# Altium footprint library QFN.PcbLib: 32 footprints (part 1 of 2)
Each footprint in its own frame and in the unit in brackets; x right, y up, seen from the top. Pads: shape width x height; smd on the part's side, far side on the other; paste and mask are expansions set on the pad; w line width, h text height; cw(c..) or ccw(c..) is an arc to the next point about the centre after c.
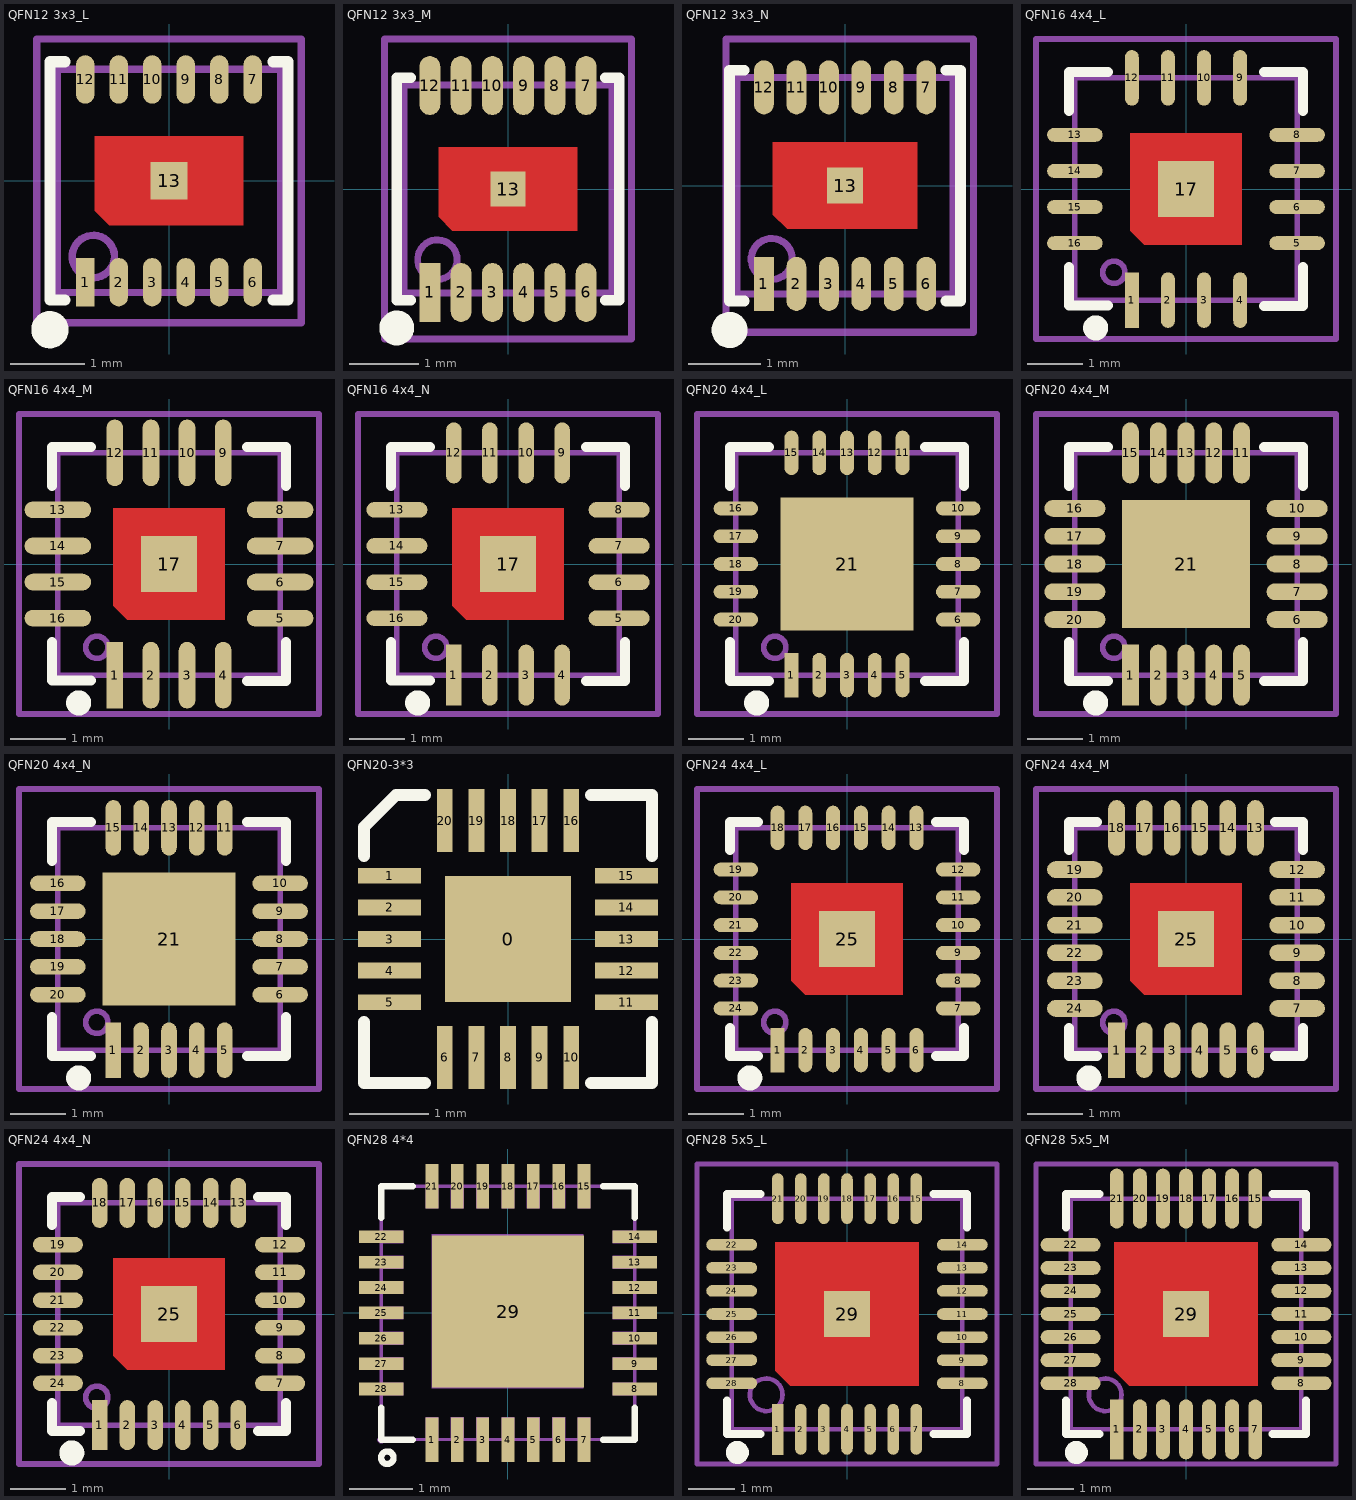
[diagram p0: the footprints below, top view; thin cyan lines are the x and y axes]

## QFN12 3x3_L [mm] "12脚，长x宽x高：3x3x0.6mm，脚距：0.45mm"
pads (13):
  rect 0.25x0.65 smd: 1(-1.125,-1.362)
  oval 0.25x0.65 smd: 2(-0.675,-1.362) 3(-0.225,-1.362) 4(0.225,-1.362) 5(0.675,-1.362) 6(1.125,-1.362) 7(1.125,1.362) 8(0.675,1.362) 9(0.225,1.362) 10(-0.225,1.362) 11(-0.675,1.362) 12(-1.125,1.362)
  rect 0.5x0.5 smd: 13(0,0)
Top Layer:
  region: -1,0.6 1,0.6 1,-0.6 -0.8,-0.6 -1,-0.4
Top Overlay:
  circle w0.25: c-1.6,-2 r0.125
  lines w0.15: -1.397,-1.6 -1.6,-1.6 -1.6,1.6 -1.397,1.6 ; 1.397,-1.6 1.6,-1.6 1.6,1.6 1.397,1.6
Mechanical 13:
  circle w0.1: c-1.016,-1.016 r0.284
  lines w0.1: 1.5,-1.5 -1.49,-1.5 -1.5,-1.51 -1.5,1.5 1.5,1.5 ; 1.5,-1.5 1.5,-1.5 ; 1.5,-1.5 1.5,1.5 ; 1.5,1.5 1.5,1.5
Mechanical 15:
  circle w0.05: c0,0 r0.35
  lines w0.05: -0.5,0 0.5,0 ; 0,-0.5 0,0.5
  lines w0.1: -1.778,-1.905 -1.778,1.905 1.778,1.905 1.778,-1.905 -1.778,-1.905
3D body "QFN12 3x3.STEP": height 0.63, standoff 0, extent -1.5,-1.501 1.5,1.501

## QFN12 3x3_M [mm] "12脚，长x宽x高：3x3x0.6mm，脚距：0.45mm"
pads (13):
  rect 0.3x0.85 smd: 1(-1.125,-1.489)
  oval 0.3x0.85 smd: 2(-0.675,-1.489) 3(-0.225,-1.489) 4(0.225,-1.489) 5(0.675,-1.489) 6(1.125,-1.489) 7(1.125,1.489) 8(0.675,1.489) 9(0.225,1.489) 10(-0.225,1.489) 11(-0.675,1.489) 12(-1.125,1.489)
  rect 0.5x0.5 smd: 13(0,0)
Top Layer:
  region: -1,0.6 1,0.6 1,-0.6 -0.8,-0.6 -1,-0.4
Top Overlay:
  circle w0.25: c-1.6,-2 r0.125
  lines w0.15: -1.397,-1.6 -1.6,-1.6 -1.6,1.6 -1.397,1.6 ; 1.397,-1.6 1.6,-1.6 1.6,1.6 1.397,1.6
Mechanical 13:
  circle w0.1: c-1.016,-1.016 r0.284
  lines w0.1: 1.5,-1.5 -1.49,-1.5 -1.5,-1.51 -1.5,1.5 1.5,1.5 ; 1.5,-1.5 1.5,-1.5 ; 1.5,-1.5 1.5,1.5 ; 1.5,1.5 1.5,1.5
Mechanical 15:
  circle w0.05: c0,0 r0.35
  lines w0.05: -0.5,0 0.5,0 ; 0,-0.5 0,0.5
  lines w0.1: -1.778,-2.159 1.778,-2.159 1.778,2.159 -1.778,2.159 -1.778,-2.159
3D body "QFN12 3x3.STEP": height 0.63, standoff 0, extent -1.5,-1.501 1.5,1.501

## QFN12 3x3_N [mm] "12脚，长x宽x高：3x3x0.6mm，脚距：0.45mm"
pads (13):
  rect 0.275x0.75 smd: 1(-1.125,-1.362)
  oval 0.275x0.75 smd: 2(-0.675,-1.362) 3(-0.225,-1.362) 4(0.225,-1.362) 5(0.675,-1.362) 6(1.125,-1.362) 7(1.125,1.362) 8(0.675,1.362) 9(0.225,1.362) 10(-0.225,1.362) 11(-0.675,1.362) 12(-1.125,1.362)
  rect 0.5x0.5 smd: 13(0,0)
Top Layer:
  region: -1,0.6 1,0.6 1,-0.6 -0.8,-0.6 -1,-0.4
Top Overlay:
  circle w0.25: c-1.6,-2 r0.125
  lines w0.15: -1.397,-1.6 -1.6,-1.6 -1.6,1.6 -1.397,1.6 ; 1.397,-1.6 1.6,-1.6 1.6,1.6 1.397,1.6
Mechanical 13:
  circle w0.1: c-1.016,-1.016 r0.284
  lines w0.1: 1.5,-1.5 -1.49,-1.5 -1.5,-1.51 -1.5,1.5 1.5,1.5 ; 1.5,-1.5 1.5,-1.5 ; 1.5,-1.5 1.5,1.5 ; 1.5,1.5 1.5,1.5
Mechanical 15:
  circle w0.05: c0,0 r0.35
  lines w0.05: -0.5,0 0.5,0 ; 0,-0.5 0,0.5
  lines w0.1: -1.651,-2.032 -1.651,2.032 1.778,2.032 1.778,-2.032 -1.651,-2.032
3D body "QFN12 3x3.STEP": height 0.63, standoff 0, extent -1.5,-1.501 1.5,1.501

## QFN16 4x4_L [mm] "16脚，长x宽x高：4x4x0.8mm，脚距：0.65mm"
pads (17):
  rect 0.25x1 smd: 1(-0.975,-2)
  oval 0.25x1 smd: 2(-0.325,-2) 3(0.325,-2) 4(0.975,-2) 9(0.975,2) 10(0.325,2) 11(-0.325,2) 12(-0.975,2)
  oval 1x0.25 smd: 5(2,-0.975) 6(2,-0.325) 7(2,0.325) 8(2,0.975) 13(-2,0.975) 14(-2,0.325) 15(-2,-0.325) 16(-2,-0.975)
  rect 1x1 smd: 17(0,0)
Top Layer:
  region: -1,1 1,1 1,-1 -0.75,-1 -1,-0.75
Top Overlay:
  circle w0.25: c-1.625,-2.5 r0.1
  lines w0.178: -2.106,-1.404 -2.106,-2.1 -1.404,-2.1 ; -2.106,1.404 -2.106,2.106 -1.404,2.106 ; 1.404,-2.106 2.106,-2.106 2.106,-1.404 ; 1.404,2.106 2.106,2.106 2.106,1.404
Mechanical 13:
  circle w0.1: c-1.3,-1.5 r0.2
  lines w0.1: -2,-2 -2,2 2,2 2,-2 -2,-2
Mechanical 15:
  circle w0.05: c0,0 r0.35
  lines w0.05: -0.5,0 0.5,0 ; 0,-0.5 0,0.5
  lines w0.1: -2.7,-2.7 2.7,-2.7 2.7,2.7 -2.7,2.7 -2.7,-2.7
3D body "QFN16-4X4.STEP": height 0.75, standoff -0.05, extent -2.01,-2.01 2.01,2.01

## QFN16 4x4_M [mm] "16脚，长x宽x高：4x4x0.8mm，脚距：0.65mm"
pads (17):
  rect 0.3x1.2 smd: 1(-0.975,-2)
  oval 0.3x1.2 smd: 2(-0.325,-2) 3(0.325,-2) 4(0.975,-2) 9(0.975,2) 10(0.325,2) 11(-0.325,2) 12(-0.975,2)
  oval 1.2x0.3 smd: 5(2,-0.975) 6(2,-0.325) 7(2,0.325) 8(2,0.975) 13(-2,0.975) 14(-2,0.325) 15(-2,-0.325) 16(-2,-0.975)
  rect 1x1 smd: 17(0,0)
Top Layer:
  region: -1,1 1,1 1,-1 -0.75,-1 -1,-0.75
Top Overlay:
  circle w0.25: c-1.625,-2.5 r0.1
  lines w0.178: -2.106,-1.404 -2.106,-2.1 -1.404,-2.1 ; -2.106,1.404 -2.106,2.106 -1.404,2.106 ; 1.404,-2.106 2.106,-2.106 2.106,-1.404 ; 1.404,2.106 2.106,2.106 2.106,1.404
Mechanical 13:
  circle w0.1: c-1.3,-1.5 r0.2
  lines w0.1: -2,-2 -2,2 2,2 2,-2 -2,-2
Mechanical 15:
  circle w0.05: c0,0 r0.35
  lines w0.05: -0.5,0 0.5,0 ; 0,-0.5 0,0.5
  lines w0.1: -2.7,-2.7 2.7,-2.7 2.7,2.7 -2.7,2.7 -2.7,-2.7
3D body "QFN16-4X4.STEP": height 0.75, standoff -0.05, extent -2.01,-2.01 2.01,2.01

## QFN16 4x4_N [mm] "16脚，长x宽x高：4x4x0.8mm，脚距：0.65mm"
pads (17):
  rect 0.28x1.1 smd: 1(-0.975,-2)
  oval 0.28x1.1 smd: 2(-0.325,-2) 3(0.325,-2) 4(0.975,-2) 9(0.975,2) 10(0.325,2) 11(-0.325,2) 12(-0.975,2)
  oval 1.1x0.28 smd: 5(2,-0.975) 6(2,-0.325) 7(2,0.325) 8(2,0.975) 13(-2,0.975) 14(-2,0.325) 15(-2,-0.325) 16(-2,-0.975)
  rect 1x1 smd: 17(0,0)
Top Layer:
  region: -1,1 1,1 1,-1 -0.75,-1 -1,-0.75
Top Overlay:
  circle w0.25: c-1.625,-2.5 r0.1
  lines w0.178: -2.106,-1.404 -2.106,-2.1 -1.404,-2.1 ; -2.106,1.404 -2.106,2.106 -1.404,2.106 ; 1.404,-2.106 2.106,-2.106 2.106,-1.404 ; 1.404,2.106 2.106,2.106 2.106,1.404
Mechanical 13:
  circle w0.1: c-1.3,-1.5 r0.2
  lines w0.1: -2,-2 2,-2 2,2 -2,2 -2,-2
Mechanical 15:
  circle w0.05: c0,0 r0.35
  lines w0.05: -0.5,0 0.5,0 ; 0,-0.5 0,0.5
  lines w0.1: -2.7,-2.7 -2.7,2.7 2.7,2.7 2.7,-2.7 -2.7,-2.7
3D body "QFN16-4X4.STEP": height 0.75, standoff -0.05, extent -2.01,-2.01 2.01,2.01

## QFN20 4x4_L [mm] "20脚，长x宽x高：4x4x0.95mm，脚距：0.5mm"
pads (21):
  rect 0.25x0.8 smd: 1(-1,-2)
  oval 0.25x0.8 smd: 2(-0.5,-2) 3(0,-2) 4(0.5,-2) 5(1,-2) 11(1,2) 12(0.5,2) 13(0,2) 14(-0.5,2) 15(-1,2)
  oval 0.8x0.25 smd: 6(2,-1) 7(2,-0.5) 8(2,0) 9(2,0.5) 10(2,1) 16(-2,1) 17(-2,0.5) 18(-2,0) 19(-2,-0.5) 20(-2,-1)
  rect 2.4x2.4 smd: 21(0,0)
Top Overlay:
  circle w0.25: c-1.625,-2.5 r0.1
  lines w0.178: -2.106,-1.404 -2.106,-2.106 -1.404,-2.106 ; -2.106,1.404 -2.106,2.106 -1.404,2.106 ; 1.404,-2.106 2.106,-2.106 2.106,-1.404 ; 1.404,2.106 2.106,2.106 2.106,1.404
Mechanical 13:
  circle w0.1: c-1.3,-1.5 r0.2
  lines w0.1: -2,-2 2,-2 2,2 -2,2 -2,-2
Mechanical 15:
  circle w0.05: c0,0 r0.35
  lines w0.05: -0.5,0 0.5,0 ; 0,-0.5 0,0.5
  lines w0.1: -2.7,-2.7 -2.7,2.7 2.7,2.7 2.7,-2.7 -2.7,-2.7
3D body "QFN20-4X4.STEP": height 0.95, standoff -0.05, extent -2.01,-2.01 2.01,2.01

## QFN20 4x4_M [mm] "20脚，长x宽x高：4x4x0.95mm，脚距：0.5mm"
pads (21):
  rect 0.3x1.1 smd: 1(-1,-2)
  oval 0.3x1.1 smd: 2(-0.5,-2) 3(0,-2) 4(0.5,-2) 5(1,-2) 11(1,2) 12(0.5,2) 13(0,2) 14(-0.5,2) 15(-1,2)
  oval 1.1x0.3 smd: 6(2,-1) 7(2,-0.5) 8(2,0) 9(2,0.5) 10(2,1) 16(-2,1) 17(-2,0.5) 18(-2,0) 19(-2,-0.5) 20(-2,-1)
  rect 2.3x2.3 smd: 21(0,0)
Top Overlay:
  circle w0.25: c-1.625,-2.5 r0.1
  lines w0.178: -2.106,-1.404 -2.106,-2.106 -1.404,-2.106 ; -2.106,1.404 -2.106,2.106 -1.404,2.106 ; 1.404,-2.106 2.106,-2.106 2.106,-1.404 ; 1.404,2.106 2.106,2.106 2.106,1.404
Mechanical 13:
  circle w0.1: c-1.3,-1.5 r0.2
  lines w0.1: -2,-2 -2,2 2,2 2,-2 -2,-2
Mechanical 15:
  circle w0.05: c0,0 r0.35
  lines w0.05: -0.5,0 0.5,0 ; 0,-0.5 0,0.5
  lines w0.1: -2.7,-2.7 2.7,-2.7 2.7,2.7 -2.7,2.7 -2.7,-2.7
3D body "QFN20-4X4.STEP": height 0.95, standoff -0.05, extent -2.01,-2.01 2.01,2.01

## QFN20 4x4_N [mm] "20脚，长x宽x高：4x4x0.95mm，脚距：0.5mm"
pads (21):
  rect 0.28x1 smd: 1(-1,-2)
  oval 0.28x1 smd: 2(-0.5,-2) 3(0,-2) 4(0.5,-2) 5(1,-2) 11(1,2) 12(0.5,2) 13(0,2) 14(-0.5,2) 15(-1,2)
  oval 1x0.28 smd: 6(2,-1) 7(2,-0.5) 8(2,0) 9(2,0.5) 10(2,1) 16(-2,1) 17(-2,0.5) 18(-2,0) 19(-2,-0.5) 20(-2,-1)
  rect 2.4x2.4 smd: 21(0,0)
Top Overlay:
  circle w0.25: c-1.625,-2.5 r0.1
  lines w0.178: -2.106,-1.404 -2.106,-2.106 -1.404,-2.106 ; -2.106,1.404 -2.106,2.106 -1.404,2.106 ; 1.404,-2.106 2.106,-2.106 2.106,-1.404 ; 1.404,2.106 2.106,2.106 2.106,1.404
Mechanical 13:
  circle w0.1: c-1.3,-1.5 r0.2
  lines w0.1: -2,-2 2,-2 2,2 -2,2 -2,-2
Mechanical 15:
  circle w0.05: c0,0 r0.35
  lines w0.05: -0.5,0 0.5,0 ; 0,-0.5 0,0.5
  lines w0.1: -2.7,-2.7 -2.7,2.7 2.7,2.7 2.7,-2.7 -2.7,-2.7
3D body "QFN20-4X4.STEP": height 0.95, standoff -0.05, extent -2.01,-2.01 2.01,2.01

## QFN20-3*3 [mm]
height 8
pads (21):
  rect 1.6x1.6 smd: 0(0,0)
  rect 0.8x0.2 smd: 1(-1.5,0.8) 2(-1.5,0.4) 3(-1.5,0) 4(-1.5,-0.4) 5(-1.5,-0.8) 11(1.5,-0.8) 12(1.5,-0.4) 13(1.5,0) 14(1.5,0.4) 15(1.5,0.8)
  rect 0.2x0.8 smd: 6(-0.8,-1.5) 7(-0.4,-1.5) 8(0,-1.5) 9(0.4,-1.5) 10(0.8,-1.5) 16(0.8,1.5) 17(0.4,1.5) 18(0,1.5) 19(-0.4,1.5) 20(-0.8,1.5)
Top Overlay:
  lines w0.15: -1.825,-1.05 -1.825,-1.825 -1.05,-1.825 ; -1.825,1.05 -1.825,1.417 -1.417,1.825 -1.05,1.825 ; 1.05,-1.825 1.825,-1.825 1.825,-1.05 ; 1.05,1.825 1.825,1.825 1.825,1.05

## QFN24 4x4_L [mm] "24脚，长x宽x高：4x4x1mm，脚距：0.5mm"
pads (25):
  rect 0.25x0.8 smd: 1(-1.25,-2)
  oval 0.25x0.8 smd: 2(-0.75,-2) 3(-0.25,-2) 4(0.25,-2) 5(0.75,-2) 6(1.25,-2) 13(1.25,2) 14(0.75,2) 15(0.25,2) 16(-0.25,2) 17(-0.75,2) 18(-1.25,2)
  oval 0.8x0.25 smd: 7(2,-1.25) 8(2,-0.75) 9(2,-0.25) 10(2,0.25) 11(2,0.75) 12(2,1.25) 19(-2,1.25) 20(-2,0.75) 21(-2,0.25) 22(-2,-0.25) 23(-2,-0.75) 24(-2,-1.25)
  rect 1x1 smd: 25(0,0)
Top Layer:
  region: -1,1 1,1 1,-1 -0.75,-1 -1,-0.75
Top Overlay:
  circle w0.25: c-1.75,-2.5 r0.1
  lines w0.178: -2.106,-1.6 -2.106,-2.106 -1.6,-2.106 ; -2.106,1.6 -2.106,2.106 -1.6,2.106 ; 1.6,-2.106 2.106,-2.106 2.106,-1.6 ; 1.6,2.106 2.106,2.106 2.106,1.6
Mechanical 13:
  circle w0.1: c-1.3,-1.5 r0.2
  lines w0.1: -2,-2 2,-2 2,2 -2,2 -2,-2
Mechanical 15:
  circle w0.05: c0,0 r0.35
  lines w0.05: -0.5,0 0.5,0 ; 0,-0.5 0,0.5
  lines w0.1: -2.7,-2.7 -2.7,2.7 2.7,2.7 2.7,-2.7 -2.7,-2.7
3D body "QFN24-4X4.STEP": height 0.95, standoff -0.05, extent -2.01,-2.01 2.01,2.01

## QFN24 4x4_M [mm] "24脚，长x宽x高：4x4x1mm，脚距：0.5mm"
pads (25):
  rect 0.3x1 smd: 1(-1.25,-2)
  oval 0.3x1 smd: 2(-0.75,-2) 3(-0.25,-2) 4(0.25,-2) 5(0.75,-2) 6(1.25,-2) 13(1.25,2) 14(0.75,2) 15(0.25,2) 16(-0.25,2) 17(-0.75,2) 18(-1.25,2)
  oval 1x0.3 smd: 7(2,-1.25) 8(2,-0.75) 9(2,-0.25) 10(2,0.25) 11(2,0.75) 12(2,1.25) 19(-2,1.25) 20(-2,0.75) 21(-2,0.25) 22(-2,-0.25) 23(-2,-0.75) 24(-2,-1.25)
  rect 1x1 smd: 25(0,0)
Top Layer:
  region: -1,1 1,1 1,-1 -0.75,-1 -1,-0.75
Top Overlay:
  circle w0.25: c-1.75,-2.5 r0.1
  lines w0.178: -2.106,-1.6 -2.106,-2.106 -1.6,-2.106 ; -2.106,1.6 -2.106,2.106 -1.6,2.106 ; 1.6,-2.106 2.106,-2.106 2.106,-1.6 ; 1.6,2.106 2.106,2.106 2.106,1.6
Mechanical 13:
  circle w0.1: c-1.3,-1.5 r0.2
  lines w0.1: -2,-2 -2,2 2,2 2,-2 -2,-2
Mechanical 15:
  circle w0.05: c0,0 r0.35
  lines w0.05: -0.5,0 0.5,0 ; 0,-0.5 0,0.5
  lines w0.1: -2.7,-2.7 2.7,-2.7 2.7,2.7 -2.7,2.7 -2.7,-2.7
3D body "QFN24-4X4.STEP": height 0.95, standoff -0.05, extent -2.01,-2.01 2.01,2.01

## QFN24 4x4_N [mm] "24脚，长x宽x高：4x4x1mm，脚距：0.5mm"
pads (25):
  rect 0.28x0.9 smd: 1(-1.25,-2)
  oval 0.28x0.9 smd: 2(-0.75,-2) 3(-0.25,-2) 4(0.25,-2) 5(0.75,-2) 6(1.25,-2) 13(1.25,2) 14(0.75,2) 15(0.25,2) 16(-0.25,2) 17(-0.75,2) 18(-1.25,2)
  oval 0.9x0.28 smd: 7(2,-1.25) 8(2,-0.75) 9(2,-0.25) 10(2,0.25) 11(2,0.75) 12(2,1.25) 19(-2,1.25) 20(-2,0.75) 21(-2,0.25) 22(-2,-0.25) 23(-2,-0.75) 24(-2,-1.25)
  rect 1x1 smd: 25(0,0)
Top Layer:
  region: -1,1 1,1 1,-1 -0.75,-1 -1,-0.75
Top Overlay:
  circle w0.25: c-1.75,-2.5 r0.1
  lines w0.178: -2.106,-1.6 -2.106,-2.106 -1.6,-2.106 ; -2.106,1.6 -2.106,2.106 -1.6,2.106 ; 1.6,-2.106 2.106,-2.106 2.106,-1.6 ; 1.6,2.106 2.106,2.106 2.106,1.6
Mechanical 13:
  circle w0.1: c-1.3,-1.5 r0.2
  lines w0.1: -2,-2 2,-2 2,2 -2,2 -2,-2
Mechanical 15:
  circle w0.05: c0,0 r0.35
  lines w0.05: -0.5,0 0.5,0 ; 0,-0.5 0,0.5
  lines w0.1: -2.7,-2.7 -2.7,2.7 2.7,2.7 2.7,-2.7 -2.7,-2.7
3D body "QFN24-4X4.STEP": height 0.95, standoff -0.05, extent -2.01,-2.01 2.01,2.01

## QFN28 4*4 [mm] "28脚，长x宽x高：5x5x0.8mm，脚距：0.5mm"
pads (29):
  rect 0.2x0.7 smd paste-100 mask+0.051: 1(-1.2,-2) 2(-0.8,-2) 3(-0.4,-2) 4(-0.001,-2) 5(0.4,-2) 6(0.8,-2) 7(1.2,-2) 15(1.2,2) 16(0.8,2) 17(0.4,2) 18(0,2) 19(-0.4,2) 20(-0.8,2) 21(-1.2,2)
  rect 0.7x0.2 smd paste-100 mask+0.051: 8(2,-1.2) 9(2,-0.8) 10(2,-0.4) 11(1.999,0) 12(2,0.4) 13(2,0.8) 14(2,1.2) 22(-2,1.2) 23(-2,0.8) 24(-2,0.4) 25(-2,0) 26(-2,-0.4) 27(-2,-0.8) 28(-2,-1.2)
  rect 2.4x2.4 smd paste-100 mask+0.051: 29(0,0.02)
Top Overlay:
  circle w0.1: c-1.905,-2.286 r0.099
  lines w0.102: -2,-1.5 -2,-2 -1.5,-2 ; -2,1.5 -2,2 -1.5,2 ; 1.5,-2 2,-2 2,-1.5 ; 1.5,2 2,2 2,1.5
Top Paste:
  region: -1.1,2.35 -1.3,2.35 -1.3,1.65 -1.1,1.65
  region: -0.7,2.35 -0.9,2.35 -0.9,1.65 -0.7,1.65
  region: -0.3,2.35 -0.5,2.35 -0.5,1.65 -0.3,1.65
  region: 0.1,2.35 -0.1,2.35 -0.1,1.65 0.1,1.65
  region: 0.5,2.35 0.3,2.35 0.3,1.65 0.5,1.65
  region: 0.9,2.35 0.7,2.35 0.7,1.65 0.9,1.65
  region: 1.3,2.35 1.1,2.35 1.1,1.65 1.3,1.65
  region: -1.1,-1.65 -1.3,-1.65 -1.3,-2.35 -1.1,-2.35
  region: -0.7,-1.65 -0.9,-1.65 -0.9,-2.35 -0.7,-2.35
  region: -0.3,-1.65 -0.5,-1.65 -0.5,-2.35 -0.3,-2.35
  region: 0.1,-1.65 -0.1,-1.65 -0.1,-2.35 0.1,-2.35
  region: 0.5,-1.65 0.3,-1.65 0.3,-2.35 0.5,-2.35
  region: 0.9,-1.65 0.7,-1.65 0.7,-2.35 0.9,-2.35
  region: 1.3,-1.65 1.1,-1.65 1.1,-2.35 1.3,-2.35
  region: 2.35,1.1 2.35,1.3 1.65,1.3 1.65,1.1
  region: 2.35,0.7 2.35,0.9 1.65,0.9 1.65,0.7
  region: 2.35,0.3 2.35,0.5 1.65,0.5 1.65,0.3
  region: 2.35,-0.1 2.35,0.1 1.65,0.1 1.65,-0.1
  region: 2.35,-0.5 2.35,-0.3 1.65,-0.3 1.65,-0.5
  region: 2.35,-0.9 2.35,-0.7 1.65,-0.7 1.65,-0.9
  region: 2.35,-1.3 2.35,-1.1 1.65,-1.1 1.65,-1.3
  region: -1.65,-1.3 -1.65,-1.1 -2.35,-1.1 -2.35,-1.3
  region: -1.65,-0.9 -1.65,-0.7 -2.35,-0.7 -2.35,-0.9
  region: -1.65,-0.5 -1.65,-0.3 -2.35,-0.3 -2.35,-0.5
  region: -1.65,-0.1 -1.65,0.1 -2.35,0.1 -2.35,-0.1
  region: -1.65,0.3 -1.65,0.5 -2.35,0.5 -2.35,0.3
  region: -1.65,0.7 -1.65,0.9 -2.35,0.9 -2.35,0.7
  region: -1.65,1.1 -1.65,1.3 -2.35,1.3 -2.35,1.1
  region: -1.12,1.14 1.12,1.14 1.12,-1.1 -1.12,-1.1
Mechanical 15:
  drawing of 34 lines, arcs and shapes, not listed

## QFN28 5x5_L [mm] "28脚，长x宽x高：5x5x0.8mm，脚距：0.5mm"
pads (29):
  rect 0.25x1.1 smd: 1(-1.5,-2.5)
  oval 0.25x1.1 smd: 2(-1,-2.5) 3(-0.5,-2.5) 4(0,-2.5) 5(0.5,-2.5) 6(1,-2.5) 7(1.5,-2.5) 15(1.5,2.5) 16(1,2.5) 17(0.5,2.5) 18(0,2.5) 19(-0.5,2.5) 20(-1,2.5) 21(-1.5,2.5)
  oval 1.1x0.25 smd: 8(2.5,-1.5) 9(2.5,-1) 10(2.5,-0.5) 11(2.5,0) 12(2.5,0.5) 13(2.5,1) 14(2.5,1.5) 22(-2.5,1.5) 23(-2.5,1) 24(-2.5,0.5) 25(-2.5,0) 26(-2.5,-0.5) 27(-2.5,-1) 28(-2.5,-1.5)
  rect 1x1 smd: 29(0,0)
Top Layer:
  region: -1.55,1.55 1.55,1.55 1.55,-1.55 -1.225,-1.55 -1.55,-1.225
Top Overlay:
  circle w0.25: c-2.375,-3 r0.125
  lines w0.178: -2.6,-1.875 -2.6,-2.6 -1.875,-2.6 ; -2.6,1.875 -2.6,2.6 -1.875,2.6 ; 1.875,-2.6 2.6,-2.6 2.6,-1.875 ; 1.875,2.6 2.6,2.6 2.6,1.875
Mechanical 13:
  circle w0.1: c-1.75,-1.75 r0.354
  lines w0.1: -2.501,-2.501 -2.501,2.501 2.5,2.501 2.5,-2.501 -2.501,-2.501
Mechanical 15:
  circle w0.05: c0,0 r0.35
  lines w0.05: -0.5,0 0.5,0 ; 0,-0.5 0,0.5
  lines w0.1: -3.25,-3.25 3.25,-3.25 3.25,3.25 -3.25,3.25 -3.25,-3.25
3D body "QFN28-5X5.STEP": height 0.75, standoff -0.05, extent -2.51,-2.51 2.51,2.51

## QFN28 5x5_M [mm] "28脚，长x宽x高：5x5x0.8mm，脚距：0.5mm"
pads (29):
  rect 0.3x1.3 smd: 1(-1.5,-2.5)
  oval 0.3x1.3 smd: 2(-1,-2.5) 3(-0.5,-2.5) 4(0,-2.5) 5(0.5,-2.5) 6(1,-2.5) 7(1.5,-2.5) 15(1.5,2.5) 16(1,2.5) 17(0.5,2.5) 18(0,2.5) 19(-0.5,2.5) 20(-1,2.5) 21(-1.5,2.5)
  oval 1.3x0.3 smd: 8(2.5,-1.5) 9(2.5,-1) 10(2.5,-0.5) 11(2.5,0) 12(2.5,0.5) 13(2.5,1) 14(2.5,1.5) 22(-2.5,1.5) 23(-2.5,1) 24(-2.5,0.5) 25(-2.5,0) 26(-2.5,-0.5) 27(-2.5,-1) 28(-2.5,-1.5)
  rect 1x1 smd: 29(0,0)
Top Layer:
  region: -1.55,1.55 1.55,1.55 1.55,-1.55 -1.225,-1.55 -1.55,-1.225
Top Overlay:
  circle w0.25: c-2.375,-3 r0.125
  lines w0.178: -2.6,-1.875 -2.6,-2.6 -1.875,-2.6 ; -2.6,1.875 -2.6,2.6 -1.875,2.6 ; 1.875,-2.6 2.6,-2.6 2.6,-1.875 ; 1.875,2.6 2.6,2.6 2.6,1.875
Mechanical 13:
  circle w0.1: c-1.75,-1.75 r0.354
  lines w0.1: -2.501,-2.501 2.501,-2.501 2.5,2.501 -2.501,2.501 -2.501,-2.501
Mechanical 15:
  circle w0.05: c0,0 r0.35
  lines w0.05: -0.5,0 0.5,0 ; 0,-0.5 0,0.5
  lines w0.1: -3.25,-3.25 -3.25,3.25 3.25,3.25 3.25,-3.25 -3.25,-3.25
3D body "QFN28-5X5.STEP": height 0.75, standoff -0.05, extent -2.51,-2.51 2.51,2.51